# Altium schematic symbol library MCP25xx.SchLib: 13 symbols
Pins are listed as number, name and electrical type; pins without a type are passive.

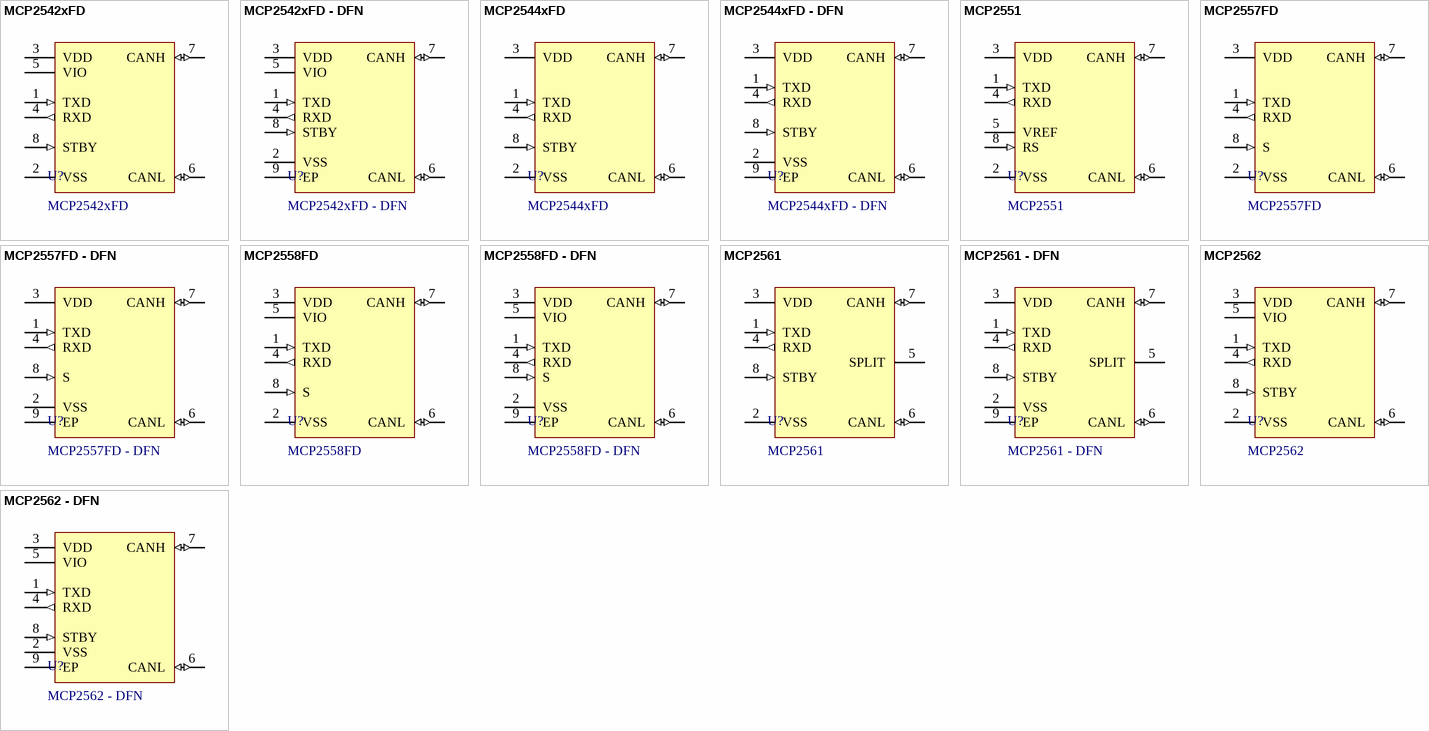
[diagram p0: symbols MCP2542xFD to MCP2562 - DFN]

## MCP2542xFD
designator U?
CAN FD Transmitter with Wake-Up Pattern Option
footprint SOIC8
pins: 1 TXD (in), 2 VSS (power), 3 VDD (power), 4 RXD (out), 5 VIO (power), 6 CANL (io), 7 CANH (io), 8 STBY (in)

## MCP2542xFD - DFN
designator U?
CAN FD Transmitter with Wake-Up Pattern Option
footprint DFN 3x3 Thermal
footprint DFN 2x3 Thermal
pins: 1 TXD (in), 2 VSS (power), 3 VDD (power), 4 RXD (out), 5 VIO (power), 6 CANL (io), 7 CANH (io), 8 STBY (in), 9 EP (power)

## MCP2544xFD
designator U?
CAN FD Transmitter with Wake-Up Pattern Option
footprint SOIC8
pins: 1 TXD (in), 2 VSS (power), 3 VDD (power), 4 RXD (out), 6 CANL (io), 7 CANH (io), 8 STBY (in)

## MCP2544xFD - DFN
designator U?
CAN FD Transmitter with Wake-Up Pattern Option
footprint DFN 3x3 Thermal
footprint DFN 2x3 Thermal
pins: 1 TXD (in), 2 VSS (power), 3 VDD (power), 4 RXD (out), 6 CANL (io), 7 CANH (io), 8 STBY (in), 9 EP (power)

## MCP2551
designator U?
High-Speed CAN Transceiver
footprint SOIC8
footprint PDIP8
pins: 1 TXD (in), 2 VSS (power), 3 VDD (power), 4 RXD (out), 5 VREF, 6 CANL (io), 7 CANH (io), 8 RS (in)

## MCP2557FD
designator U?
CAN FD Transceiver with Silent Mode
footprint SOIC8
pins: 1 TXD (in), 2 VSS (power), 3 VDD (power), 4 RXD (out), 6 CANL (io), 7 CANH (io), 8 S (in)

## MCP2557FD - DFN
designator U?
CAN FD Transceiver with Silent Mode
footprint DFN 2x3 Thermal
footprint DFN 3x3 Thermal
pins: 1 TXD (in), 2 VSS (power), 3 VDD (power), 4 RXD (out), 6 CANL (io), 7 CANH (io), 8 S (in), 9 EP (power)

## MCP2558FD
designator U?
CAN FD Transceiver with Silent Mode
footprint SOIC8
pins: 1 TXD (in), 2 VSS (power), 3 VDD (power), 4 RXD (out), 5 VIO (power), 6 CANL (io), 7 CANH (io), 8 S (in)

## MCP2558FD - DFN
designator U?
CAN FD Transceiver with Silent Mode
footprint DFN 2x3 Thermal
footprint DFN 3x3 Thermal
pins: 1 TXD (in), 2 VSS (power), 3 VDD (power), 4 RXD (out), 5 VIO (power), 6 CANL (io), 7 CANH (io), 8 S (in), 9 EP (power)

## MCP2561
designator U?
High-Speed CAN Transceiver
footprint SOIC8
footprint PDIP8
pins: 1 TXD (in), 2 VSS (power), 3 VDD (power), 4 RXD (out), 5 SPLIT, 6 CANL (io), 7 CANH (io), 8 STBY (in)

## MCP2561 - DFN
designator U?
High-Speed CAN Transceiver
footprint DFN 3x3 Thermal
pins: 1 TXD (in), 2 VSS (power), 3 VDD (power), 4 RXD (out), 5 SPLIT, 6 CANL (io), 7 CANH (io), 8 STBY (in), 9 EP (power)

## MCP2562
designator U?
High-Speed CAN Transceiver
footprint SOIC8
footprint PDIP8
pins: 1 TXD (in), 2 VSS (power), 3 VDD (power), 4 RXD (out), 5 VIO (power), 6 CANL (io), 7 CANH (io), 8 STBY (in)

## MCP2562 - DFN
designator U?
High-Speed CAN Transceiver
footprint DFN 3x3 Thermal
pins: 1 TXD (in), 2 VSS (power), 3 VDD (power), 4 RXD (out), 5 VIO (power), 6 CANL (io), 7 CANH (io), 8 STBY (in), 9 EP (power)